# Altium footprint library LM2596S.PcbLib: 1 footprints
Each footprint in its own frame and in the unit in brackets; x right, y up, seen from the top. Pads: shape width x height; smd on the part's side, far side on the other; paste and mask are expansions set on the pad; w line width, h text height; cw(c..) or ccw(c..) is an arc to the next point about the centre after c.
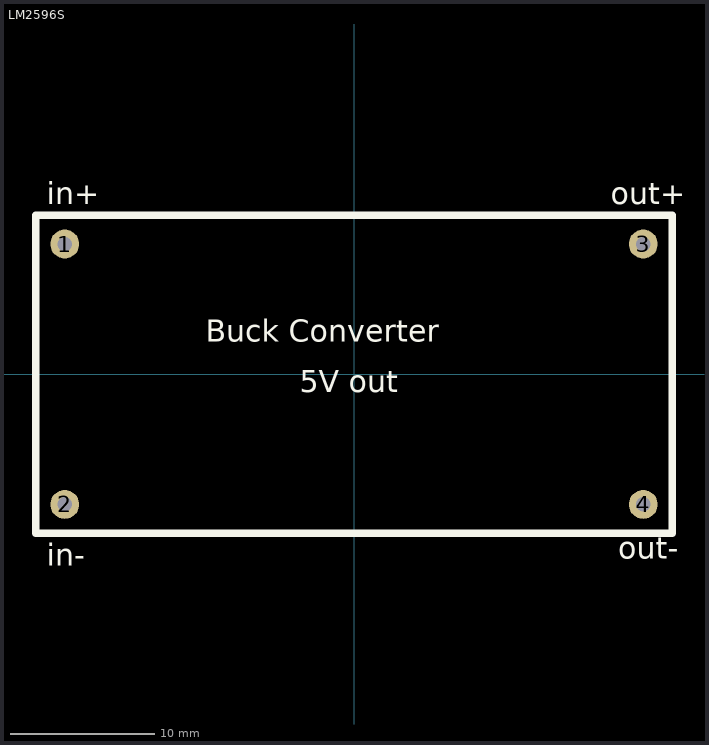
[diagram p0: the footprint, top view; thin cyan lines are the x and y axes]

## LM2596S [mm]
pads (4):
  round 2 hole 1: 1(-20,9) 2(-20,-9) 3(20,9) 4(20,-9)
Top Overlay:
  lines w0.5: -22,-11 -22,11 22,11 22,-11 -22,-11
  text "5V out" at -3.746,-1.246 h1.52
  text "Buck Converter" at -10.246,2.254 h1.52
  text "in+" at -21.246,11.754 h1.52
  text "out+" at 17.754,11.754 h1.52
  text "in-" at -21.246,-13.246 h1.52
  text "out-" at 18.254,-12.746 h1.52
Bottom Overlay:
  text "in-" at -17.754,-12.746 h1.52
  text "out-" at 21.746,-12.246 h1.52
  text "out+" at 21.746,11.254 h1.52
  text "in+" at -18.754,11.254 h1.52